# EAGLE library part ATTINY45 (library __MyCommonLib1)
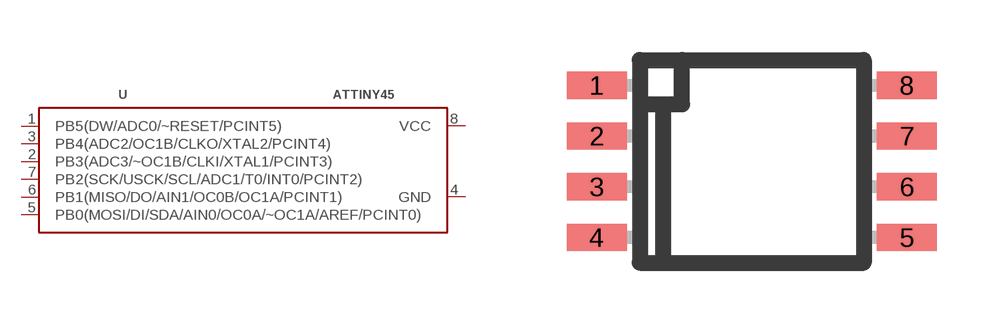
[diagram p14: symbol with the pads of PSOP8(0.208''); footprint PSOP8(0.208'')]

Designator prefix -

## ATTINY45(PSOP8_0.208'')  [PSOP8(0.208'')]
1  PB5(DW/ADC0/~RESET/PCINT5)
2  PB3(ADC3/~OC1B/CLKI/XTAL1/PCINT3)
3  PB4(ADC2/OC1B/CLKO/XTAL2/PCINT4)
4  GND
5  PB0(MOSI/DI/SDA/AIN0/OC0A/~OC1A/AREF/PCINT0)
6  PB1(MISO/DO/AIN1/OC0B/OC1A/PCINT1)
7  PB2(SCK/USCK/SCL/ADC1/T0/INT0/PCINT2)
8  VCC

## Footprint PSOP8(0.208'') (pad centres in mm)
smd 1.5 x 0.68: 1 -3.88,1.905; 2 -3.88,0.635; 3 -3.88,-0.635; 4 -3.88,-1.905; 5 3.88,-1.905; 6 3.88,-0.635; 7 3.88,0.635; 8 3.88,1.905